# EAGLE library part BOOST_TPS61022 (library PiB_ic_power)
TPS61022 Low Voltage Boost Switching Voltage Regulator Regulator designed for low voltage applications where the source voltage varies largely. Some examples include IoT applications running on NiMH or related batteries. Output is restricted to a maximum of 5.5V for this reason.
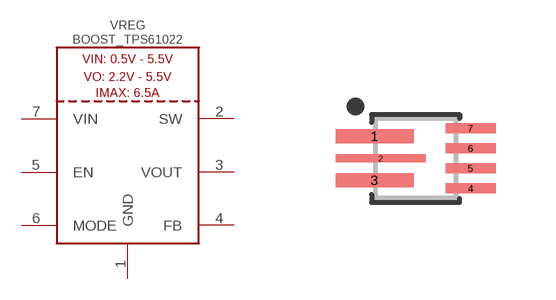
[diagram p6: symbol with the pads of 7-VFQFN; footprint 7-VFQFN]

Designator prefix VREG

## BOOST_TPS61022 (DATASHEET: http://www.ti.com/lit/ds/symlink/tps61022.pdf; DIST: DIGIKEY; DISTLINK: https://www.digikey.com/product-detail/en/texas-instruments/TPS61022RWUR/296-TPS61022RWURCT-ND/10435195; DISTPN: 296-TPS61022RWURCT-ND; MFR: Texas Instruments; MPN: TPS61022RWUR; VALUE: TPS61022)  [7-VFQFN]
1  GND
2  SW
3  VOUT
4  FB
5  EN
6  MODE
7  VIN

## Footprint 7-VFQFN (pad centres in mm)
smd 1.95 x 0.35: 1 -1.025,0.55; 3 -1.025,-0.55
smd 2.25 x 0.2: 2 -0.875,0
smd 1.25 x 0.25: 4 1.375,-0.75; 5 1.375,-0.25; 6 1.375,0.25; 7 1.375,0.75